# Altium integrated library 24LC256-I_P.IntLib: 1 symbol
Pins are listed as number, name and electrical type; pins without a type are passive.

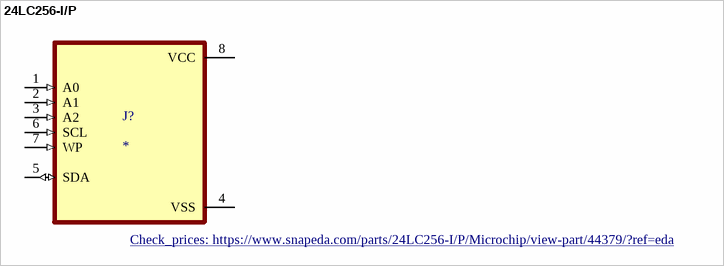
[diagram p0: symbol 24LC256-I/P]

## 24LC256-I/P
designator J?
EEPROM Memory IC 256Kb (32K x 8) IÂ²C 400kHz 900ns 8-PDIP; MP: 24LC256-I/P; MF: Microchip; Package: DIP-8 Microchip; SnapEDA_Link: https://www.snapeda.com/parts/24LC256-I/P/Microchip/view-part/44379/?ref=snap; Value: *; Availability: Unavailable; Price: None; Check_prices: https://www.snapeda.com/parts/24LC256-I/P/Microchip/view-part/44379/?ref=eda
footprint DIP787W46P254L927H533Q8
pins: 1 A0 (in), 2 A1 (in), 3 A2 (in), 4 VSS (power), 5 SDA (io), 6 SCL (in), 7 WP (in), 8 VCC (power)